# EAGLE library part MSP430F5310IZQE (library texas-custom)
16-bit Microcontrollers - MCU Mixed Signal MCU
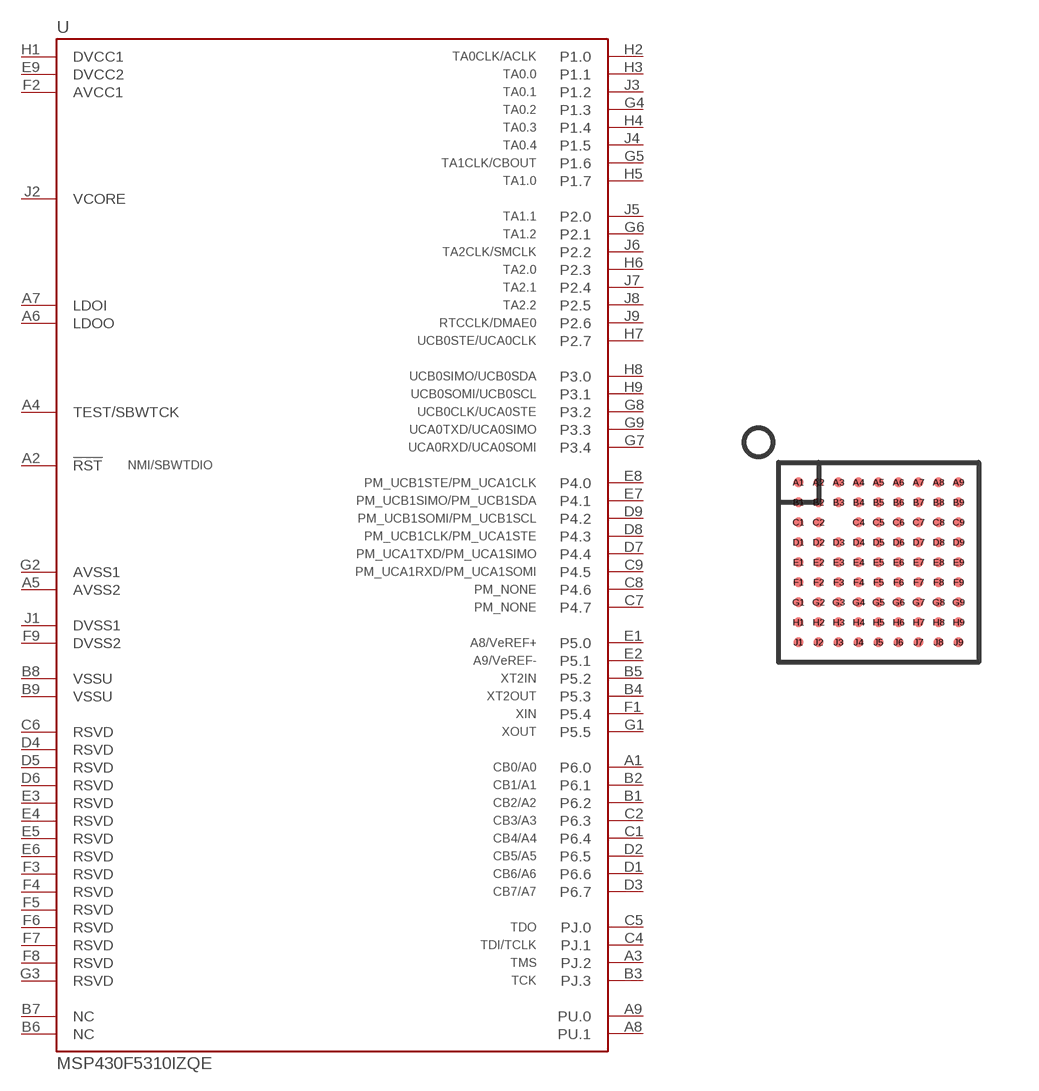
[diagram p3: symbol with the pads of S-PBGA-N80; footprint S-PBGA-N80]

Designator prefix U

## MSP430F5310IZQE  [S-PBGA-N80]
A1  P6.0
A2  !RST
A3  PJ.2
A4  TEST/SBWTCK  in
A5  AVSS2  pwr
A6  LDOO  pwr
A7  LDOI  pwr
A8  PU.1
A9  PU.0
B1  P6.2
B2  P6.1
B3  PJ.3
B4  P5.3
B5  P5.2
B6  NC  nc
B7  NC  nc
B8  VSSU  pwr
B9  VSSU  pwr
C1  P6.4
C2  P6.3
C4  PJ.1
C5  PJ.0
C6  RSVD  pas
C7  P4.7
C8  P4.6
C9  P4.5
D1  P6.6
D2  P6.5
D3  P6.7
D4  RSVD  pas
D5  RSVD  pas
D6  RSVD  pas
D7  P4.4
D8  P4.3
D9  P4.2
E1  P5.0
E2  P5.1
E3  RSVD  pas
E4  RSVD  pas
E5  RSVD  pas
E6  RSVD  pas
E7  P4.1
E8  P4.0
E9  DVCC2  pwr
F1  P5.4
F2  AVCC1  pwr
F3  RSVD  pas
F4  RSVD  pas
F5  RSVD  pas
F6  RSVD  pas
F7  RSVD  pas
F8  RSVD  pas
F9  DVSS2  pwr
G1  P5.5
G2  AVSS1  pwr
G3  RSVD  pas
G4  P1.3
G5  P1.6
G6  P2.1
G7  P3.4
G8  P3.2
G9  P3.3
H1  DVCC1  pwr
H2  P1.0
H3  P1.1
H4  P1.4
H5  P1.7
H6  P2.3
H7  P2.7
H8  P3.0
H9  P3.1
J1  DVSS1  pwr
J2  VCORE  pwr
J3  P1.2
J4  P1.5
J5  P2.0
J6  P2.2
J7  P2.4
J8  P2.5
J9  P2.6

## Footprint S-PBGA-N80 (pad centres in mm)
81-pin BGA
smd 0.25 x 0.25: A1 -2,2; A2 -1.5,2; A3 -1,2; A4 -0.5,2; A5 0,2; A6 0.5,2; A7 1,2; A8 1.5,2; A9 2,2; B1 -2,1.5; B2 -1.5,1.5; B3 -1,1.5; B4 -0.5,1.5; B5 0,1.5; B6 0.5,1.5; B7 1,1.5; B8 1.5,1.5; B9 2,1.5; C1 -2,1; C2 -1.5,1; C4 -0.5,1; C5 0,1; C6 0.5,1; C7 1,1; C8 1.5,1; C9 2,1; D1 -2,0.5; D2 -1.5,0.5; D3 -1,0.5; D4 -0.5,0.5; D5 0,0.5; D6 0.5,0.5; D7 1,0.5; D8 1.5,0.5; D9 2,0.5; E1 -2,0; E2 -1.5,0; E3 -1,0; E4 -0.5,0; E5 0,0; E6 0.5,0; E7 1,0; E8 1.5,0; E9 2,0; F1 -2,-0.5; F2 -1.5,-0.5; F3 -1,-0.5; F4 -0.5,-0.5; F5 0,-0.5; F6 0.5,-0.5; F7 1,-0.5; F8 1.5,-0.5; F9 2,-0.5; G1 -2,-1; G2 -1.5,-1; G3 -1,-1; G4 -0.5,-1; G5 0,-1; G6 0.5,-1; G7 1,-1; G8 1.5,-1; G9 2,-1; H1 -2,-1.5; H2 -1.5,-1.5; H3 -1,-1.5; H4 -0.5,-1.5; H5 0,-1.5; H6 0.5,-1.5; H7 1,-1.5; H8 1.5,-1.5; H9 2,-1.5; J1 -2,-2; J2 -1.5,-2; J3 -1,-2; J4 -0.5,-2; J5 0,-2; J6 0.5,-2; J7 1,-2; J8 1.5,-2; J9 2,-2